# Altium footprint library AngleVu.PcbLib: 74 footprints (part 3 of 5)
Each footprint in its own frame and in the unit in brackets; x right, y up, seen from the top. Pads: shape width x height; smd on the part's side, far side on the other; paste and mask are expansions set on the pad; w line width, h text height; cw(c..) or ccw(c..) is an arc to the next point about the centre after c.
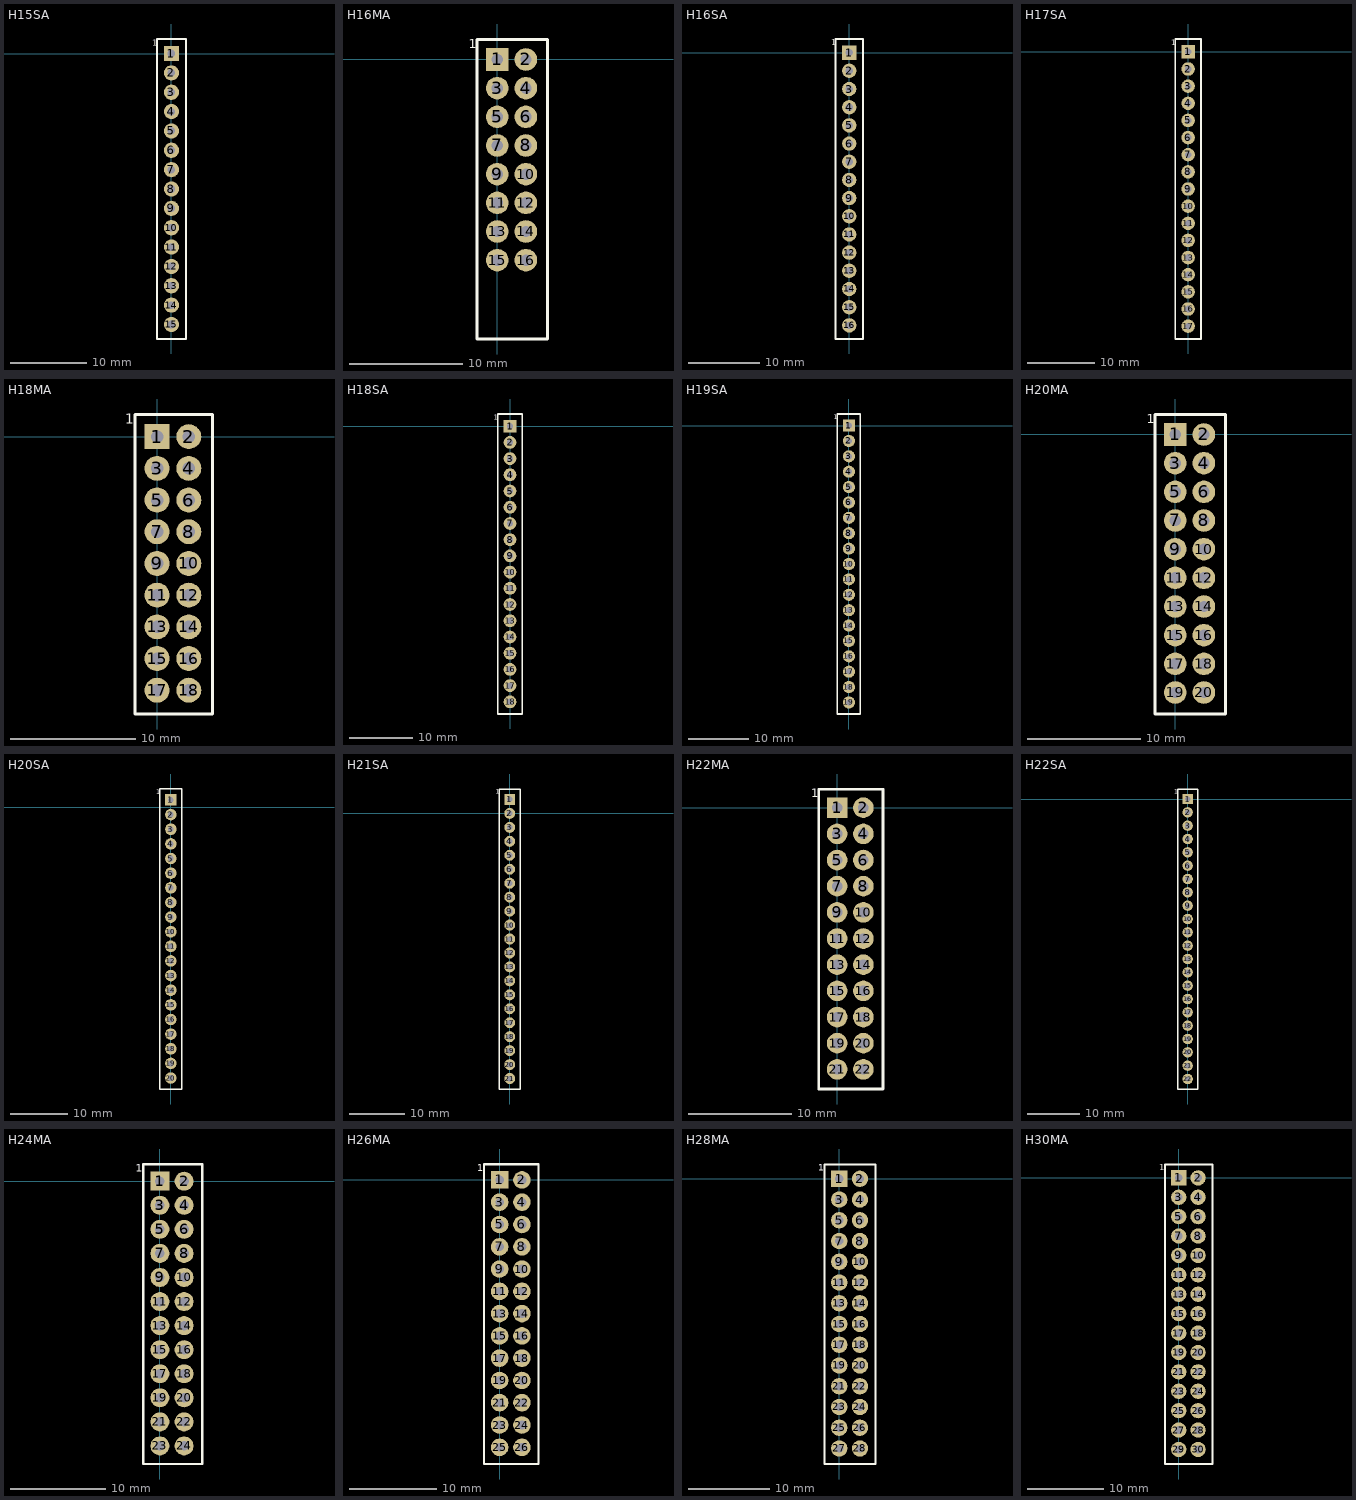
[diagram p2: the footprints below, top view; thin cyan lines are the x and y axes]

## H15SA [mm] "HEADER, SINGLE, DISTANCE = 100mil"
pads (15):
  rect 2x2 hole 1: 1(0,0)
  round 2 hole 1: 2(0,-2.54) 3(0,-5.08) 4(0,-7.62) 5(0,-10.16) 6(0,-12.7) 7(0,-15.24) 8(0,-17.78) 9(0,-20.32) 10(0,-22.86) 11(0,-25.4) 12(0,-27.94) 13(0,-30.48) 14(0,-33.02) 15(0,-35.56)
Top Overlay:
  lines w0.254: -1.905,-37.465 -1.905,1.905 1.905,1.905 1.905,-37.465 -1.905,-37.465
  text "1" at -2.54,1.016 h0.8

## H16MA [mm] "HEADER, DOUBLE, DISTANCE = 100mil"
pads (16):
  rect 2x2 hole 1: 1(0,0)
  round 2 hole 1: 2(2.54,0) 3(0,-2.54) 4(2.54,-2.54) 5(0,-5.08) 6(2.54,-5.08) 7(0,-7.62) 8(2.54,-7.62) 9(0,-10.16) 10(2.54,-10.16) 11(0,-12.7) 12(2.54,-12.7) 13(0,-15.24) 14(2.54,-15.24) 15(0,-17.78) 16(2.54,-17.78)
Top Overlay:
  lines w0.254: -1.778,-24.765 -1.778,1.778 4.445,1.778 4.445,-24.765 -1.778,-24.765
  text "1" at -2.54,1.016 h0.8

## H16SA [mm] "HEADER, SINGLE, DISTANCE = 100mil"
pads (16):
  rect 2x2 hole 1: 1(0,0)
  round 2 hole 1: 2(0,-2.54) 3(0,-5.08) 4(0,-7.62) 5(0,-10.16) 6(0,-12.7) 7(0,-15.24) 8(0,-17.78) 9(0,-20.32) 10(0,-22.86) 11(0,-25.4) 12(0,-27.94) 13(0,-30.48) 14(0,-33.02) 15(0,-35.56) 16(0,-38.1)
Top Overlay:
  lines w0.254: -1.905,-40.005 -1.905,1.905 1.905,1.905 1.905,-40.005 -1.905,-40.005
  text "1" at -2.54,1.016 h0.8

## H17SA [mm] "HEADER, SINGLE, DISTANCE = 100mil"
pads (17):
  rect 2x2 hole 1: 1(0,0)
  round 2 hole 1: 2(0,-2.54) 3(0,-5.08) 4(0,-7.62) 5(0,-10.16) 6(0,-12.7) 7(0,-15.24) 8(0,-17.78) 9(0,-20.32) 10(0,-22.86) 11(0,-25.4) 12(0,-27.94) 13(0,-30.48) 14(0,-33.02) 15(0,-35.56) 16(0,-38.1) 17(0,-40.64)
Top Overlay:
  lines w0.254: -1.905,-42.545 -1.905,1.905 1.905,1.905 1.905,-42.545 -1.905,-42.545
  text "1" at -2.54,1.016 h0.8

## H18MA [mm] "HEADER, DOUBLE, DISTANCE = 100mil"
pads (18):
  rect 2x2 hole 1: 1(0,0)
  round 2 hole 1: 2(2.54,0) 3(0,-2.54) 4(2.54,-2.54) 5(0,-5.08) 6(2.54,-5.08) 7(0,-7.62) 8(2.54,-7.62) 9(0,-10.16) 10(2.54,-10.16) 11(0,-12.7) 12(2.54,-12.7) 13(0,-15.24) 14(2.54,-15.24) 15(0,-17.78) 16(2.54,-17.78) 17(0,-20.32) 18(2.54,-20.32)
Top Overlay:
  lines w0.254: -1.778,-22.225 -1.778,1.778 4.445,1.778 4.445,-22.225 -1.778,-22.225
  text "1" at -2.54,1.016 h0.8

## H18SA [mm] "HEADER, SINGLE, DISTANCE = 100mil"
pads (18):
  rect 2x2 hole 1: 1(0,0)
  round 2 hole 1: 2(0,-2.54) 3(0,-5.08) 4(0,-7.62) 5(0,-10.16) 6(0,-12.7) 7(0,-15.24) 8(0,-17.78) 9(0,-20.32) 10(0,-22.86) 11(0,-25.4) 12(0,-27.94) 13(0,-30.48) 14(0,-33.02) 15(0,-35.56) 16(0,-38.1) 17(0,-40.64) 18(0,-43.18)
Top Overlay:
  lines w0.254: -1.905,-45.085 1.905,-45.085 1.905,1.905 -1.905,1.905 -1.905,-45.085
  text "1" at -2.54,1.016 h0.8

## H19SA [mm] "HEADER, SINGLE, DISTANCE = 100mil"
pads (19):
  rect 2x2 hole 1: 1(0,0)
  round 2 hole 1: 2(0,-2.54) 3(0,-5.08) 4(0,-7.62) 5(0,-10.16) 6(0,-12.7) 7(0,-15.24) 8(0,-17.78) 9(0,-20.32) 10(0,-22.86) 11(0,-25.4) 12(0,-27.94) 13(0,-30.48) 14(0,-33.02) 15(0,-35.56) 16(0,-38.1) 17(0,-40.64) 18(0,-43.18) 19(0,-45.72)
Top Overlay:
  lines w0.254: -1.905,-47.625 1.905,-47.625 1.905,1.905 -1.905,1.905 -1.905,-47.625
  text "1" at -2.54,1.016 h0.8

## H20MA [mm] "HEADER, DOUBLE, DISTANCE = 100mil"
pads (20):
  rect 2x2 hole 1: 1(0,0)
  round 2 hole 1: 2(2.54,0) 3(0,-2.54) 4(2.54,-2.54) 5(0,-5.08) 6(2.54,-5.08) 7(0,-7.62) 8(2.54,-7.62) 9(0,-10.16) 10(2.54,-10.16) 11(0,-12.7) 12(2.54,-12.7) 13(0,-15.24) 14(2.54,-15.24) 15(0,-17.78) 16(2.54,-17.78) 17(0,-20.32) 18(2.54,-20.32) 19(0,-22.86) 20(2.54,-22.86)
Top Overlay:
  lines w0.254: -1.778,-24.765 -1.778,1.778 4.445,1.778 4.445,-24.765 -1.778,-24.765
  text "1" at -2.54,1.016 h0.8

## H20SA [mm] "HEADER, SINGLE, DISTANCE = 100mil"
pads (20):
  rect 2x2 hole 1: 1(0,1.27)
  round 2 hole 1: 2(0,-1.27) 3(0,-3.81) 4(0,-6.35) 5(0,-8.89) 6(0,-11.43) 7(0,-13.97) 8(0,-16.51) 9(0,-19.05) 10(0,-21.59) 11(0,-24.13) 12(0,-26.67) 13(0,-29.21) 14(0,-31.75) 15(0,-34.29) 16(0,-36.83) 17(0,-39.37) 18(0,-41.91) 19(0,-44.45) 20(0,-46.99)
Top Overlay:
  lines w0.254: -1.905,-48.895 -1.905,3.175 1.905,3.175 1.905,-48.895 -1.905,-48.895
  text "1" at -2.54,2.286 h0.8

## H21SA [mm] "HEADER, SINGLE, DISTANCE = 100mil"
pads (21):
  rect 2x2 hole 1: 1(0,2.54)
  round 2 hole 1: 2(0,0) 3(0,-2.54) 4(0,-5.08) 5(0,-7.62) 6(0,-10.16) 7(0,-12.7) 8(0,-15.24) 9(0,-17.78) 10(0,-20.32) 11(0,-22.86) 12(0,-25.4) 13(0,-27.94) 14(0,-30.48) 15(0,-33.02) 16(0,-35.56) 17(0,-38.1) 18(0,-40.64) 19(0,-43.18) 20(0,-45.72) 21(0,-48.26)
Top Overlay:
  lines w0.254: -1.905,-50.165 -1.905,4.445 1.905,4.445 1.905,-50.165 -1.905,-50.165
  text "1" at -2.54,3.556 h0.8

## H22MA [mm] "HEADER, DOUBLE, DISTANCE = 100mil"
pads (22):
  rect 2x2 hole 1: 1(0,0)
  round 2 hole 1: 2(2.54,0) 3(0,-2.54) 4(2.54,-2.54) 5(0,-5.08) 6(2.54,-5.08) 7(0,-7.62) 8(2.54,-7.62) 9(0,-10.16) 10(2.54,-10.16) 11(0,-12.7) 12(2.54,-12.7) 13(0,-15.24) 14(2.54,-15.24) 15(0,-17.78) 16(2.54,-17.78) 17(0,-20.32) 18(2.54,-20.32) 19(0,-22.86) 20(2.54,-22.86) 21(0,-25.4) 22(2.54,-25.4)
Top Overlay:
  lines w0.254: -1.778,-27.305 -1.778,1.778 4.445,1.778 4.445,-27.305 -1.778,-27.305
  text "1" at -2.54,1.016 h0.8

## H22SA [mm] "HEADER, SINGLE, DISTANCE = 100mil"
pads (22):
  rect 2x2 hole 1: 1(0,0)
  round 2 hole 1: 2(0,-2.54) 3(0,-5.08) 4(0,-7.62) 5(0,-10.16) 6(0,-12.7) 7(0,-15.24) 8(0,-17.78) 9(0,-20.32) 10(0,-22.86) 11(0,-25.4) 12(0,-27.94) 13(0,-30.48) 14(0,-33.02) 15(0,-35.56) 16(0,-38.1) 17(0,-40.64) 18(0,-43.18) 19(0,-45.72) 20(0,-48.26) 21(0,-50.8) 22(0,-53.34)
Top Overlay:
  lines w0.254: -1.905,-55.245 -1.905,1.905 1.905,1.905 1.905,-55.245 -1.905,-55.245
  text "1" at -2.54,1.016 h0.8

## H24MA [mm] "HEADER, DOUBLE, DISTANCE = 100mil"
pads (24):
  rect 2x2 hole 1: 1(0,0)
  round 2 hole 1: 2(2.54,0) 3(0,-2.54) 4(2.54,-2.54) 5(0,-5.08) 6(2.54,-5.08) 7(0,-7.62) 8(2.54,-7.62) 9(0,-10.16) 10(2.54,-10.16) 11(0,-12.7) 12(2.54,-12.7) 13(0,-15.24) 14(2.54,-15.24) 15(0,-17.78) 16(2.54,-17.78) 17(0,-20.32) 18(2.54,-20.32) 19(0,-22.86) 20(2.54,-22.86) 21(0,-25.4) 22(2.54,-25.4) 23(0,-27.94) 24(2.54,-27.94)
Top Overlay:
  lines w0.254: -1.778,-29.845 4.445,-29.845 4.445,1.778 -1.778,1.778 -1.778,-29.845
  text "1" at -2.54,1.016 h0.8

## H26MA [mm] "HEADER, DOUBLE, DISTANCE = 100mil"
pads (26):
  rect 2x2 hole 1: 1(0,0)
  round 2 hole 1: 2(2.54,0) 3(0,-2.54) 4(2.54,-2.54) 5(0,-5.08) 6(2.54,-5.08) 7(0,-7.62) 8(2.54,-7.62) 9(0,-10.16) 10(2.54,-10.16) 11(0,-12.7) 12(2.54,-12.7) 13(0,-15.24) 14(2.54,-15.24) 15(0,-17.78) 16(2.54,-17.78) 17(0,-20.32) 18(2.54,-20.32) 19(0,-22.86) 20(2.54,-22.86) 21(0,-25.4) 22(2.54,-25.4) 23(0,-27.94) 24(2.54,-27.94) 25(0,-30.48) 26(2.54,-30.48)
Top Overlay:
  lines w0.254: -1.778,-32.385 -1.778,1.778 4.445,1.778 4.445,-32.385 -1.778,-32.385
  text "1" at -2.54,1.016 h0.8

## H28MA [mm] "HEADER, DOUBLE, DISTANCE = 100mil"
pads (28):
  rect 2x2 hole 1: 1(0,0)
  round 2 hole 1: 2(2.54,0) 3(0,-2.54) 4(2.54,-2.54) 5(0,-5.08) 6(2.54,-5.08) 7(0,-7.62) 8(2.54,-7.62) 9(0,-10.16) 10(2.54,-10.16) 11(0,-12.7) 12(2.54,-12.7) 13(0,-15.24) 14(2.54,-15.24) 15(0,-17.78) 16(2.54,-17.78) 17(0,-20.32) 18(2.54,-20.32) 19(0,-22.86) 20(2.54,-22.86) 21(0,-25.4) 22(2.54,-25.4) 23(0,-27.94) 24(2.54,-27.94) 25(0,-30.48) 26(2.54,-30.48) 27(0,-33.02) 28(2.54,-33.02)
Top Overlay:
  lines w0.254: -1.778,-34.925 4.445,-34.925 4.445,1.778 -1.778,1.778 -1.778,-34.925
  text "1" at -2.54,1.016 h0.8

## H30MA [mm] "HEADER, DOUBLE, DISTANCE = 100mil"
pads (30):
  rect 2x2 hole 1: 1(0,0)
  round 2 hole 1: 2(2.54,0) 3(0,-2.54) 4(2.54,-2.54) 5(0,-5.08) 6(2.54,-5.08) 7(0,-7.62) 8(2.54,-7.62) 9(0,-10.16) 10(2.54,-10.16) 11(0,-12.7) 12(2.54,-12.7) 13(0,-15.24) 14(2.54,-15.24) 15(0,-17.78) 16(2.54,-17.78) 17(0,-20.32) 18(2.54,-20.32) 19(0,-22.86) 20(2.54,-22.86) 21(0,-25.4) 22(2.54,-25.4) 23(0,-27.94) 24(2.54,-27.94) 25(0,-30.48) 26(2.54,-30.48) 27(0,-33.02) 28(2.54,-33.02) 29(0,-35.56) 30(2.54,-35.56)
Top Overlay:
  lines w0.254: -1.778,-37.465 4.445,-37.465 4.445,1.778 -1.778,1.778 -1.778,-37.465
  text "1" at -2.54,1.016 h0.8